# Altium footprint library CSD16401Q5.PcbLib: 1 footprints
Each footprint in its own frame and in the unit in brackets; x right, y up, seen from the top. Pads: shape width x height; smd on the part's side, far side on the other; paste and mask are expansions set on the pad; w line width, h text height; cw(c..) or ccw(c..) is an arc to the next point about the centre after c.
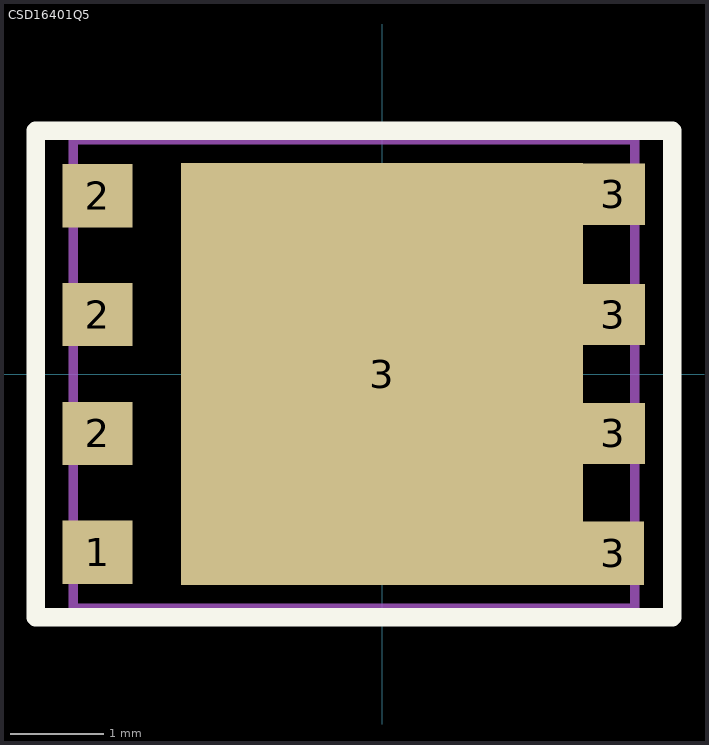
[diagram p0: the footprint, top view; thin cyan lines are the x and y axes]

## CSD16401Q5 [mm]
height 0.9
pads (9):
  rect 0.75x0.675 smd: 1(-3.04,-1.905) 2(-3.04,-0.635) 2(-3.04,0.635) 2(-3.04,1.905)
  rect 4.295x4.51 smd: 3(0,0)
  rect 0.655x0.675 smd: 3(2.47,-1.916)
  rect 0.675x0.655 smd: 3(2.47,-0.635) 3(2.47,0.635) 3(2.47,1.92)
Top Overlay:
  lines w0.2: -3.7,-2.6 -3.7,2.6 3.1,2.6 3.1,-2.6 -3.7,-2.6
Top Assembly:
  lines w0.1: -3.3,-2.5 -3.3,2.5 2.7,2.5 2.7,-2.5 -3.3,-2.5
  text "'.Designator'" at 0,0 h0.7
3D body "CSD16401Q5.stp": height 1.05, standoff 0, extent -3.3,-2.5 2.7,2.5